# Altium footprint library SnapEDApcb.PcbLib: 1 footprints
Each footprint in its own frame and in the unit in brackets; x right, y up, seen from the top. Pads: shape width x height; smd on the part's side, far side on the other; paste and mask are expansions set on the pad; w line width, h text height; cw(c..) or ccw(c..) is an arc to the next point about the centre after c.
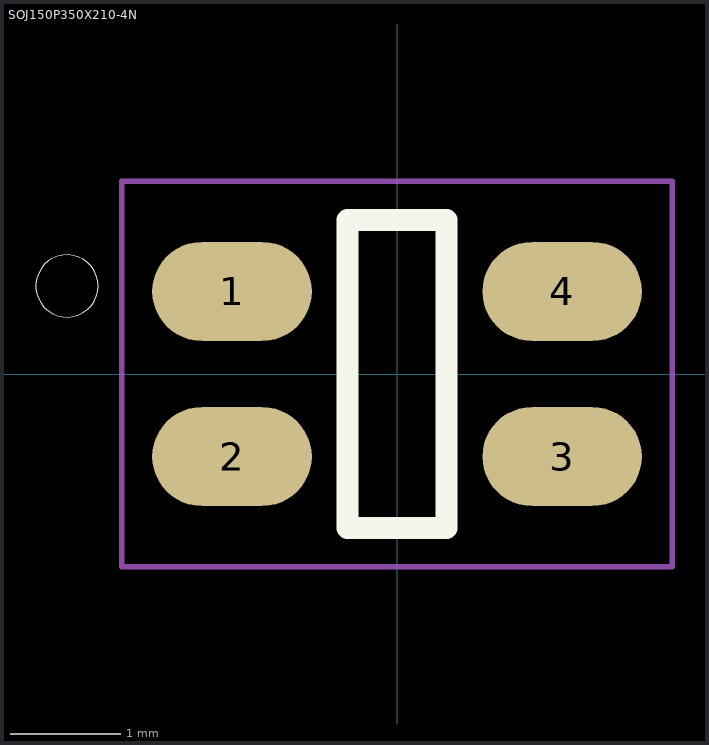
[diagram p0: the footprint, top view; thin cyan lines are the x and y axes]

## SOJ150P350X210-4N [mm]
pads (4):
  oval 1.45x0.9 smd: 1(-1.5,0.75) 2(-1.5,-0.75) 3(1.5,-0.75) 4(1.5,0.75)
Top Overlay:
  circle w0: c-3,0.8 r0.283
  lines w0.2: -0.45,-1.4 -0.45,1.4 0.45,1.4 0.45,-1.4 -0.45,-1.4
Mechanical 15:
  lines w0.05: -2.5,-1.75 -2.5,1.75 2.5,1.75 2.5,-1.75 -2.5,-1.75
3D body "CLA1A-WKW-CXAYB153.STEP": height 2.04, standoff -0.06, extent -1.75,-1.4 1.75,1.4